# EAGLE library part TSM-105-01-S-DV (library TSM-105-01-S-DV)
Check prices <https://pricing.snapeda.com/parts/TSM-105-01-S-DV/Samtec/view-part?ref=eda>
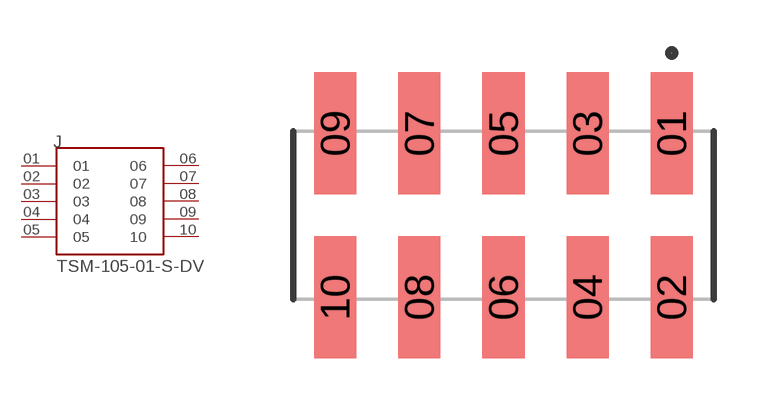
[diagram p0: symbol with the pads of SAMTEC_TSM-105-01-S-DV; footprint SAMTEC_TSM-105-01-S-DV]

Designator prefix J

## TSM-105-01-S-DV (Availability: Bad; Description: TSM - Samtec 2.54mm Dual Row Vertical Surface Mount Header 5.84mm Post Height (01) - Fast Stock; MF: Samtec; MP: TSM-105-01-S-DV; Package: None; Price: None; Purchase-URL: https://pricing.snapeda.com/search/part/TSM-105-01-S-DV/?ref=eda)  [SAMTEC_TSM-105-01-S-DV]
01  01  pas
02  02  pas
03  03  pas
04  04  pas
05  05  pas
06  06  pas
07  07  pas
08  08  pas
09  09  pas
10  10  pas

## Footprint SAMTEC_TSM-105-01-S-DV (pad centres in mm)
smd 1.27 x 3.68: 01 5.08,2.475; 02 5.08,-2.475; 03 2.54,2.475; 04 2.54,-2.475; 05 0,2.475; 06 0,-2.475; 07 -2.54,2.475; 08 -2.54,-2.475; 09 -5.08,2.475; 10 -5.08,-2.475